# EAGLE library part MBED-SOCKET (library mbed-microcontroller)
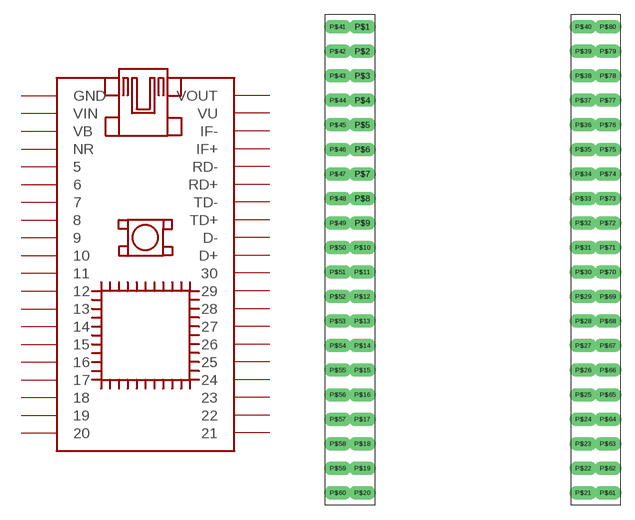
[diagram p1: symbol with the pads of MBED-SOCKET; footprint MBED-SOCKET]

Designator prefix IC

## MBED-SOCKET  [MBED-SOCKET]
P$1  GND
P$2  VIN
P$3  VB
P$4  NR
P$5  5
P$6  6
P$7  7
P$8  8
P$9  9
P$10  10
P$11  11
P$12  12
P$13  13
P$14  14
P$15  15
P$16  16
P$17  17
P$18  18
P$19  19
P$20  20
P$21  21
P$22  22
P$23  23
P$24  24
P$25  25
P$26  26
P$27  27
P$28  28
P$29  29
P$30  30
P$31  D+
P$32  D-
P$33  TD+
P$34  TD-
P$35  RD+
P$36  RD-
P$37  IF+
P$38  IF-
P$39  VU
P$40  VOUT

## Footprint MBED-SOCKET (pad centres in mm)
drill 0.8 pad 1.422 long: P$1 0,0; P$2 0,-2.54; P$3 0,-5.08; P$4 0,-7.62; P$5 0,-10.16; P$6 0,-12.7; P$7 0,-15.24; P$8 0,-17.78; P$9 0,-20.32; P$10 0,-22.86; P$11 0,-25.4; P$12 0,-27.94; P$13 0,-30.48; P$14 0,-33.02; P$15 0,-35.56; P$16 0,-38.1; P$17 0,-40.64; P$18 0,-43.18; P$19 0,-45.72; P$20 0,-48.26; P$21 22.86,-48.26; P$22 22.86,-45.72; P$23 22.86,-43.18; P$24 22.86,-40.64; P$25 22.86,-38.1; P$26 22.86,-35.56; P$27 22.86,-33.02; P$28 22.86,-30.48; P$29 22.86,-27.94; P$30 22.86,-25.4; P$31 22.86,-22.86; P$32 22.86,-20.32; P$33 22.86,-17.78; P$34 22.86,-15.24; P$35 22.86,-12.7; P$36 22.86,-10.16; P$37 22.86,-7.62; P$38 22.86,-5.08; P$39 22.86,-2.54; P$40 22.86,0; P$41 -2.54,0; P$42 -2.54,-2.54; P$43 -2.54,-5.08; P$44 -2.54,-7.62; P$45 -2.54,-10.16; P$46 -2.54,-12.7; P$47 -2.54,-15.24; P$48 -2.54,-17.78; P$49 -2.54,-20.32; P$50 -2.54,-22.86; P$51 -2.54,-25.4; P$52 -2.54,-27.94; P$53 -2.54,-30.48; P$54 -2.54,-33.02; P$55 -2.54,-35.56; P$56 -2.54,-38.1; P$57 -2.54,-40.64; P$58 -2.54,-43.18; P$59 -2.54,-45.72; P$60 -2.54,-48.26; P$61 25.4,-48.26; P$62 25.4,-45.72; P$63 25.4,-43.18; P$64 25.4,-40.64; P$65 25.4,-38.1; P$66 25.4,-35.56; P$67 25.4,-33.02; P$68 25.4,-30.48; P$69 25.4,-27.94; P$70 25.4,-25.4; P$71 25.4,-22.86; P$72 25.4,-20.32; P$73 25.4,-17.78; P$74 25.4,-15.24; P$75 25.4,-12.7; P$76 25.4,-10.16; P$77 25.4,-7.62; P$78 25.4,-5.08; P$79 25.4,-2.54; P$80 25.4,0